# EAGLE library part 4094 (library 40xxDIN)
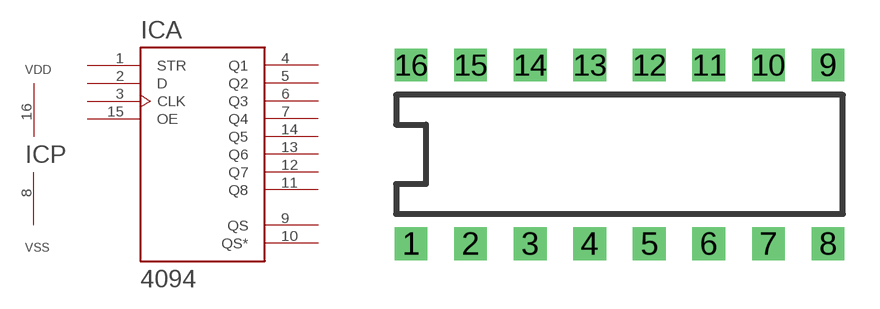
[diagram p44: symbol with the pads of DIL16; footprint DIL16]

Designator prefix IC; gates A=4094 P=PWRN

## 4094  [DIL16]
1  A:STR  in
2  A:D  in
3  A:CLK  in
4  A:Q1  out
5  A:Q2  out
6  A:Q3  out
7  A:Q4  out
8  P:VSS  pwr
9  A:QS  out
10  A:QS*  out
11  A:Q8  out
12  A:Q7  out
13  A:Q6  out
14  A:Q5  out
15  A:OE  in
16  P:VDD  pwr

## Footprint DIL16 (pad centres in mm)
drill 0.8 pad 1.397 square: 1 0,0; 2 2.54,0; 3 5.08,0; 4 7.62,0; 5 10.16,0; 6 12.7,0; 7 15.24,0; 8 17.78,0; 9 17.78,7.62; 10 15.24,7.62; 11 12.7,7.62; 12 10.16,7.62; 13 7.62,7.62; 14 5.08,7.62; 15 2.54,7.62; 16 0,7.62